# Altium schematic symbol library Metal_Opera_Resistors.SchLib: 5 symbols
Pins are listed as number, name and electrical type; pins without a type are passive.

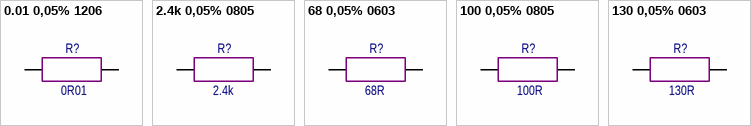
[diagram p0: symbols 0.01 0,05% 1206 to 130 0,05% 0603]

## 0.01 0,05% 1206
designator R?, comment 0R01
1206; P/N: Резистор CRF1206-FZ-R010ELF, Bourns; ComponentLink1Description: Chipdip; ComponentLink1URL: https://www.chipdip.ru/product/rg1608n-131-w-t1-susumu-8001999350
footprint 1206
pins: 1, 2

## 2.4k 0,05% 0805
designator R?, comment 2.4k
0805; P/N: Резистор RG2012N-242-W-T1 Susumu; ComponentLink1Description: Chipdip; ComponentLink1URL: https://www.chipdip.ru/product/rg2012n-242-w-t1-susumu-8001999371
footprint 0805
pins: 1, 2

## 68 0,05% 0603
designator R?, comment 68R
0603; P/N: Резистор RG1608N-680-W-T1, Susumu; ComponentLink1Description: Chipdip; ComponentLink1URL: https://www.chipdip.ru/product/rg1608n-131-w-t1-susumu-8001999350
footprint 0603
pins: 1, 2

## 100 0,05% 0805
designator R?, comment 100R
0805; P/N: Резистор RG2012N-101-W-T1, Susumu; ComponentLink1Description: Chipdip; ComponentLink1URL: https://www.chipdip.ru/product/rg1608n-131-w-t1-susumu-8001999350
footprint 0805
pins: 1, 2

## 130 0,05% 0603
designator R?, comment 130R
0603; P/N: Резистор RG1608N-131-W-T1, Susumu; ComponentLink1Description: Chipdip; ComponentLink1URL: https://www.chipdip.ru/product/rg1608n-131-w-t1-susumu-8001999350
footprint 0603
pins: 1, 2